# Altium footprint library Header-2x16-M90_2mm_SMD.PcbLib: 1 footprints
Each footprint in its own frame and in the unit in brackets; x right, y up, seen from the top. Pads: shape width x height; smd on the part's side, far side on the other; paste and mask are expansions set on the pad; w line width, h text height; cw(c..) or ccw(c..) is an arc to the next point about the centre after c.
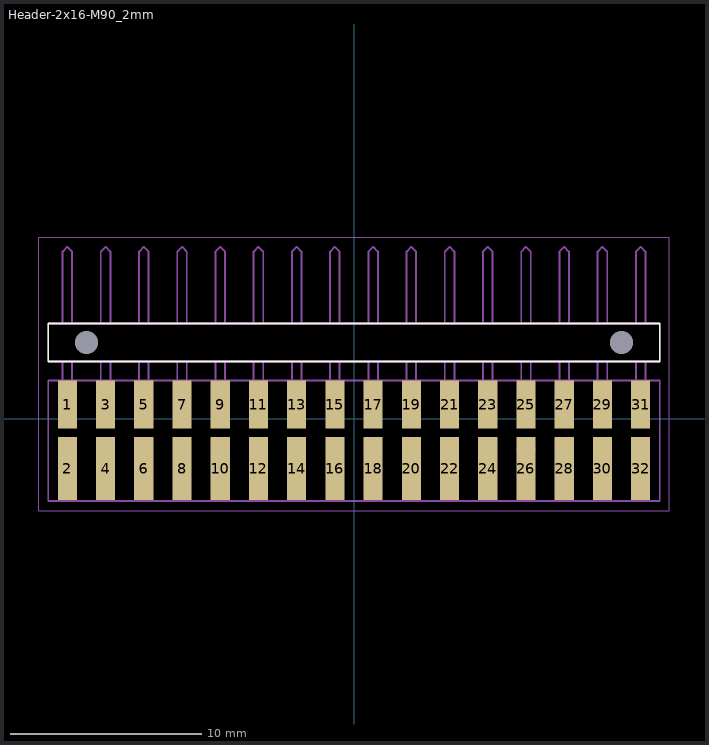
[diagram p0: the footprint, top view; thin cyan lines are the x and y axes]

## Header-2x16-M90_2mm [mm]
height 4
pads (34):
  rect 1x2.5 smd: 1(-15,0.75) 3(-13,0.75) 5(-11,0.75) 7(-9,0.75) 9(-7,0.75) 11(-5,0.75) 13(-3,0.75) 15(-1,0.75) 17(1,0.75) 19(3,0.75) 21(5,0.75) 23(7,0.75) 25(9,0.75) 27(11,0.75) 29(13,0.75) 31(15,0.75)
  rect 1x3.3 smd: 2(-15,-2.6) 4(-13,-2.6) 6(-11,-2.6) 8(-9,-2.6) 10(-7,-2.6) 12(-5,-2.6) 14(-3,-2.6) 16(-1,-2.6) 18(1,-2.6) 20(3,-2.6) 22(5,-2.6) 24(7,-2.6) 26(9,-2.6) 28(11,-2.6) 30(13,-2.6) 32(15,-2.6)
  round 1.2 hole 1.2 unplated: ""(-14,4) ""(14,4)
Top Overlay:
  lines w0.1: -16,3 -16,5 16,5 16,3 -16,3
Mechanical 13:
  drawing of 188 lines, arcs and shapes, not listed
Mechanical 15:
  lines w0.05: 8.5,-1.6 9.5,-1.6 ; 9,-2.1 9,-1.1
3D body: height 6, standoff 0, extent -15.999,-4.3 16,1.999
3D body: height 6, standoff 0, extent -16,3 15.999,5